# Altium footprint library 913936441.PcbLib: 1 footprints
Each footprint in its own frame and in the unit in brackets; x right, y up, seen from the top. Pads: shape width x height; smd on the part's side, far side on the other; paste and mask are expansions set on the pad; w line width, h text height; cw(c..) or ccw(c..) is an arc to the next point about the centre after c.
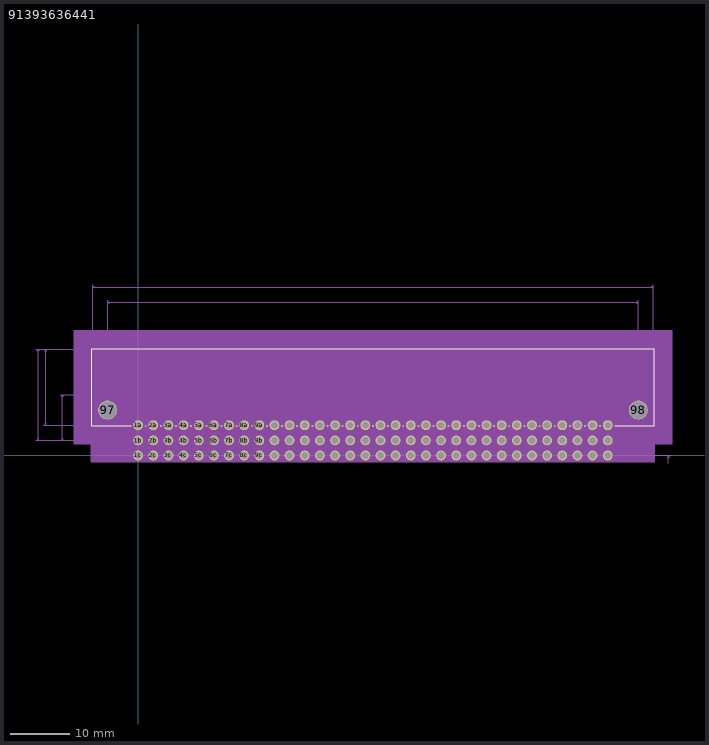
[diagram p0: the footprint, top view; thin cyan lines are the x and y axes]

## 91393636441 [mil]
pads (98):
  round 65 hole 45 mask+0: 1a(0,200) 1b(0,100) 1c(0,0) 2a(100,200) 2b(100,100) 2c(100,0) 3a(200,200) 3b(200,100) 3c(200,0) 4a(300,200) 4b(300,100) 4c(300,0) 5a(400,200) 5b(400,100) 5c(400,0) 6a(500,200) 6b(500,100) 6c(500,0) 7a(600,200) 7b(600,100) 7c(600,0) 8a(700,200) 8b(700,100) 8c(700,0) 9a(800,200) 9b(800,100) 9c(800,0) 10a(900,200) 10b(900,100) 10c(900,0) 11a(1000,200) 11b(1000,100) 11c(1000,0) 12a(1100,200) 12b(1100,100) 12c(1100,0) 13a(1200,200) 13b(1200,100) 13c(1200,0) 14a(1300,200) 14b(1300,100) 14c(1300,0) 15a(1400,200) 15b(1400,100) 15c(1400,0) 16a(1500,200) 16b(1500,100) 16c(1500,0) 17a(1600,200) 17b(1600,100) 17c(1600,0) 18a(1700,200) 18b(1700,100) 18c(1700,0) 19a(1800,200) 19b(1800,100) 19c(1800,0) 20a(1900,200) 20b(1900,100) 20c(1900,0) 21a(2000,200) 21b(2000,100) 21c(2000,0) 22a(2100,200) 22b(2100,100) 22c(2100,0) 23a(2200,200) 23b(2200,100) 23c(2200,0) 24a(2300,200) 24b(2300,100) 24c(2300,0) 25a(2400,200) 25b(2400,100) 25c(2400,0) 26a(2500,200) 26b(2500,100) 26c(2500,0) 27a(2600,200) 27b(2600,100) 27c(2600,0) 28a(2700,200) 28b(2700,100) 28c(2700,0) 29a(2800,200) 29b(2800,100) 29c(2800,0) 30a(2900,200) 30b(2900,100) 30c(2900,0) 31a(3000,200) 31b(3000,100) 31c(3000,0) 32a(3100,200) 32b(3100,100) 32c(3100,0)
  round 125 hole 115: 97(-202,300) 98(3302,300)
Top Overlay:
  lines w6: -45.33,195 -305.5,195 -305.5,706 3405.5,706 3405.5,195 3145.32,195 ; 45.33,195 54.67,195 ; 145.32,195 154.68,195 ; 245.32,195 254.68,195 ; 345.32,195 354.68,195 ; 445.32,195 454.68,195 ; 545.33,195 554.67,195 ; 645.33,195 654.67,195 ; 745.33,195 754.67,195 ; 845.33,195 854.67,195 ; 945.33,195 954.67,195 ; 1045.33,195 1054.67,195 ; 1145.33,195 1154.67,195 ; 1245.33,195 1254.67,195 ; 1345.33,195 1354.67,195 ; 1445.33,195 1454.67,195 ; 1545.33,195 1554.67,195 ; 1645.33,195 1654.67,195 ; 1745.33,195 1754.67,195 ; 1845.33,195 1854.67,195 ; 1945.33,195 1954.67,195 ; 2045.33,195 2054.68,195 ; 2145.32,195 2154.68,195 ; 2245.32,195 2254.68,195 ; 2345.32,195 2354.68,195 ; 2445.32,195 2454.68,195 ; 2545.32,195 2554.68,195 ; 2645.32,195 2654.68,195 ; 2745.32,195 2754.68,195 ; 2845.32,195 2854.68,195 ; 2945.32,195 2954.68,195 ; 3045.32,195 3054.68,195
Mechanical 5:
  region: -425.5,826 3525.5,826 3525.5,75 -425.5,75
Mechanical 7:
  lines w1: -675.5,100 1550,100 ; -675.5,701 -300.5,701 ; -625.5,200 -300.5,200 ; -625.5,701 -300.5,701 ; -515.5,100 1550,100 ; -515.5,400 1900,400 ; -400.5,100 1550,100 ; -400.5,300 3302,300 3302,1026 ; -300.5,1126 -300.5,701 ; -202,300 -202,1026 ; -50,786 0,786 ; 0,100 3515.5,100 ; 0,801 0,0 3515.5,0 ; 100,0 100,801 ; 150,786 100,786 ; 3400.5,701 3400.5,1126 ; 3500.5,-50 3500.5,0 ; 3500.5,150 3500.5,100 ; -660.5,100 -655.5,110 -665.5,110 -660.5,100 ; -660.5,100 -660.5,701 ; -660.5,701 -655.5,691 -665.5,691 -660.5,701 ; -610.5,200 -605.5,210 -615.5,210 -610.5,200 ; -610.5,200 -610.5,701 ; -610.5,701 -605.5,691 -615.5,691 -610.5,701 ; -500.5,100 -495.5,110 -505.5,110 -500.5,100 ; -500.5,100 -500.5,400 ; -500.5,400 -495.5,390 -505.5,390 -500.5,400 ; -385.5,100 -380.5,110 -390.5,110 -385.5,100 ; -385.5,100 -385.5,300 ; -385.5,300 -380.5,290 -390.5,290 -385.5,300 ; -300.5,1111 -290.5,1106 -290.5,1116 -300.5,1111 ; -300.5,1111 3400.5,1111 ; -202,1011 -192,1006 -192,1016 -202,1011 ; -202,1011 3302,1011 ; 0,786 -10,781 -10,791 0,786 ; 100,786 110,781 110,791 100,786 ; 3302,1011 3292,1006 3292,1016 3302,1011 ; 3400.5,1111 3390.5,1106 3390.5,1116 3400.5,1111 ; 3500.5,0 3505.5,-10 3495.5,-10 3500.5,0 ; 3500.5,100 3505.5,110 3495.5,110 3500.5,100
  text "0.501in/12.725mm" at -830.5,438 h25
  text "0.601in/15.265mm" at -880.5,388 h25
  text "0.3in/7.62mm" at -670.5,237.5 h25
  text "0.2in/5.08mm" at -555.5,187.5 h25
  text "0.1in/2.54mm" at 3520.5,87.5 h25
  text "3.701in/94.005mm" at 1450,1131 h25
  text "3.504in/89.002mm" at 1450,1031 h25
  text "0.1in/2.54mm" at -25,806 h25
Mechanical 13:
  lines w1: -300.5,200 -300.5,701 3400.5,701 3400.5,200 -300.5,200
Mechanical 15:
  region: 3410.5,711 -310.5,711 -310.5,-42.5 3410.5,-42.5
  lines w6: -310.5,-42.5 3410.5,-42.5 3410.5,711 -310.5,711 -310.5,-42.5
3D body: height 10, standoff 0, extent 0,200 10,210